# Altium footprint library PEPLLIB.PcbLib: 78 footprints (part 4 of 5)
Each footprint in its own frame and in the unit in brackets; x right, y up, seen from the top. Pads: shape width x height; smd on the part's side, far side on the other; paste and mask are expansions set on the pad; w line width, h text height; cw(c..) or ccw(c..) is an arc to the next point about the centre after c.
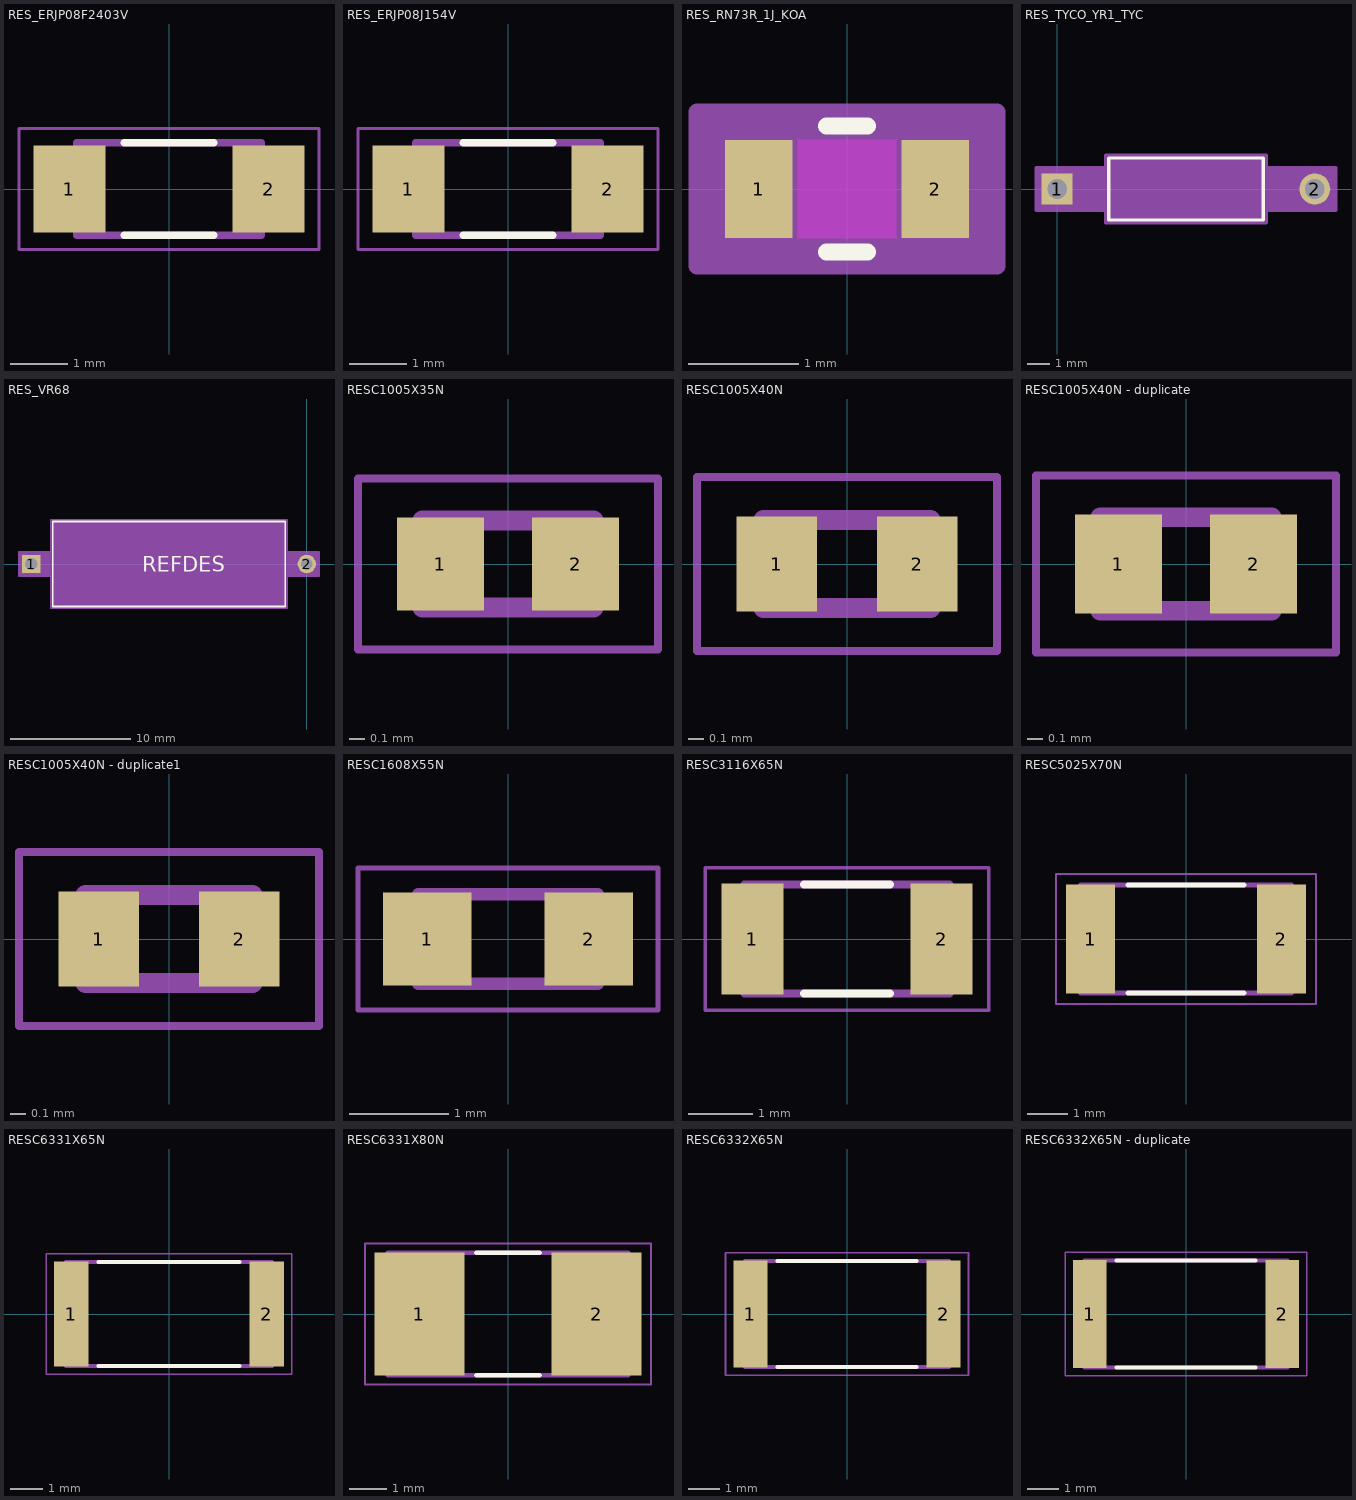
[diagram p3: the footprints below, top view; thin cyan lines are the x and y axes]

## RES_ERJP08F2403V [mm]
pads (2):
  rect 1.25x1.5 smd: 1(-1.725,0) 2(1.725,0)
Top Overlay:
  lines w0.127: -0.78,-0.8 0.78,-0.8 ; -0.78,0.8 0.78,0.8
Mechanical 13:
  lines w0.127: -1.6,-0.8 -1.6,0.8 1.6,0.8 1.6,-0.8 -1.6,-0.8
Mechanical 15:
  lines w0.05: -2.6,-1.05 -2.6,1.05 2.6,1.05 2.6,-1.05 -2.6,-1.05
3D body "ERJ-P08F2403V.step": height 0.6, standoff 0, extent -1.7,-0.8 1.5,0.8

## RES_ERJP08J154V [mm]
pads (2):
  rect 1.25x1.5 smd: 1(-1.725,0) 2(1.725,0)
Top Overlay:
  lines w0.127: -0.78,-0.8 0.78,-0.8 ; -0.78,0.8 0.78,0.8
Mechanical 13:
  lines w0.127: -1.6,-0.8 1.6,-0.8 1.6,0.8 -1.6,0.8 -1.6,-0.8
Mechanical 15:
  lines w0.05: -2.6,-1.05 2.6,-1.05 2.6,1.05 -2.6,1.05 -2.6,-1.05

## RES_RN73R_1J_KOA [mil]
pads (2):
  rect 24x35 smd paste+0 mask+0: 1(-31.5,0) 2(31.5,0)
Top Layer keep-out:
  region: -17.5,-15.5 -17.5,15.5 17.5,15.5 17.5,-15.5
Top Overlay:
  lines w6: -7.39,-22.5 7.39,-22.5 ; -7.39,22.5 7.39,22.5
Keep-Out Layer:
  region: -17.5,-17.5 -17.5,17.5 17.5,17.5 17.5,-17.5
Mechanical 13:
  lines w1: -35.5,-17.5 -35.5,17.5 ; -35.5,-17.5 -19.5,-17.5 -19.5,17.5 -35.5,17.5 ; -35.5,-17.5 35.5,-17.5 ; -35.5,-17.5 -35.5,17.5 ; -35.5,17.5 35.5,17.5 ; 35.5,-17.5 19.5,-17.5 19.5,17.5 35.5,17.5 ; 35.5,-17.5 35.5,17.5 ; 35.5,-17.5 35.5,17.5
Mechanical 15:
  region: 53.5,-27.5 -53.5,-27.5 -53.5,27.5 53.5,27.5
  lines w6: -53.5,-27.5 -53.5,27.5 53.5,27.5 53.5,-27.5 -53.5,-27.5
3D body "RES_RN73R_1J_KOA.step": height 22.01, standoff 0, extent -35.51,-17.48 35.51,17.48

## RES_TYCO_YR1_TYC [mil]
pads (2):
  rect 54x54 / inner round 60 / far side rect 54x54 hole 34 paste-99999 mask+0: 1(0,0)
  round 54 / inner round 60 / far side round 54 hole 34 paste-99999 mask+0: 2(449,0)
Top Overlay:
  lines w6: 89.5,-54 89.5,54 359.5,54 359.5,-54 89.5,-54
Mechanical 13:
  lines w1: 0,0 94.5,0 ; 354.5,0 449,0 ; 94.5,-49 94.5,49 354.5,49 354.5,-49 94.5,-49
Mechanical 15:
  region: 84.5,-37 -37,-37 -37,37 84.5,37 84.5,59 364.5,59 364.5,37 486,37 486,-37 364.5,-37 364.5,-59 84.5,-59
  lines w6: -37,-37 84.5,-37 84.5,-59 364.5,-59 364.5,-37 486,-37 486,37 364.5,37 364.5,59 84.5,59 84.5,37 -37,37 -37,-37
3D body "RES_TYCO_YR1_TYC.step": height 98.02, standoff -100, extent -12.01,-48.64 460.98,48.64

## RES_VR68 [mil]
pads (2):
  rect 60x60 / inner round 60 / far side rect 60x60 hole 40 paste-99999 mask-30: 1(-900,0)
  round 60 hole 38 paste-99999 mask-30: 2(0,0)
Top Overlay:
  lines w6: -830,-139 -70,-139 -70,139 -830,139 -830,-139
  text "REFDES" at -537.5,-25 h50
Mechanical 13:
  lines w1: -900,0 -825,0 ; -75,0 0,0 ; -825,-134 -75,-134 -75,134 -825,134 -825,-134
  text "RefDes2" at -537.5,-25 h50
Mechanical 15:
  region: -835,-40 -940,-40 -940,40 -835,40 -835,144 -65,144 -65,40 40,40 40,-40 -65,-40 -65,-144 -835,-144
  lines w6: -940,-40 -940,40 -835,40 -835,144 -65,144 -65,40 40,40 40,-40 -65,-40 -65,-144 -835,-144 -835,-40 -940,-40
3D body "RES_VR68.step": height 267.53, standoff -100, extent -915,-135 15,132.76

## RESC1005X35N [mm]
pads (2):
  rect 0.56x0.6 smd: 1(-0.435,0) 2(0.435,0)
Mechanical 13:
  lines w0.127: -0.55,-0.28 -0.55,0.28 0.55,0.28 0.55,-0.28 -0.55,-0.28
Mechanical 15:
  lines w0.05: -0.965,-0.55 -0.965,0.55 0.965,0.55 0.965,-0.55 -0.965,-0.55

## RESC1005X40N [mm]
pads (2):
  rect 0.51x0.6 smd: 1(-0.445,0) 2(0.445,0)
Mechanical 13:
  lines w0.127: -0.53,-0.28 0.53,-0.28 0.53,0.28 -0.53,0.28 -0.53,-0.28
Mechanical 15:
  lines w0.05: -0.95,-0.55 0.95,-0.55 0.95,0.55 -0.95,0.55 -0.95,-0.55

## RESC1005X40N - duplicate [mm]
pads (2):
  rect 0.56x0.64 smd: 1(-0.435,0) 2(0.435,0)
Mechanical 13:
  lines w0.127: -0.55,-0.3 -0.55,0.3 0.55,0.3 0.55,-0.3 -0.55,-0.3
Mechanical 15:
  lines w0.05: -0.965,-0.569 -0.965,0.569 0.965,0.569 0.965,-0.569 -0.965,-0.569

## RESC1005X40N - duplicate1 [mm]
pads (2):
  rect 0.51x0.6 smd mask+0.05: 1(-0.445,0) 2(0.445,0)
Mechanical 13:
  lines w0.127: -0.53,-0.28 0.53,-0.28 0.53,0.28 -0.53,0.28 -0.53,-0.28
Mechanical 15:
  lines w0.05: -0.95,-0.55 0.95,-0.55 0.95,0.55 -0.95,0.55 -0.95,-0.55
3D body "step_temp.STEP": height 0.4, standoff 0, extent -0.5,-0.25 0.5,0.25

## RESC1608X55N [mm]
pads (2):
  rect 0.89x0.93 smd: 1(-0.814,0) 2(0.814,0)
Mechanical 13:
  lines w0.127: -0.9,-0.45 0.9,-0.45 0.9,0.45 -0.9,0.45 -0.9,-0.45
Mechanical 15:
  lines w0.05: -1.508,-0.715 1.508,-0.715 1.508,0.715 -1.508,0.715 -1.508,-0.715

## RESC3116X65N [mm]
pads (2):
  rect 0.97x1.73 smd: 1(-1.48,0) 2(1.48,0)
Top Overlay:
  lines w0.127: -0.67,-0.85 0.67,-0.85 ; -0.67,0.85 0.67,0.85
Mechanical 13:
  lines w0.127: -1.6,-0.85 -1.6,0.85 1.6,0.85 1.6,-0.85 -1.6,-0.85
Mechanical 15:
  lines w0.05: -2.215,-1.115 -2.215,1.115 2.215,1.115 2.215,-1.115 -2.215,-1.115
3D body "step_temp.STEP": height 0.65, standoff 0, extent -1.55,-0.8 1.55,0.8

## RESC5025X70N [mm]
pads (2):
  rect 1.2x2.67 smd: 1(-2.335,0) 2(2.335,0)
Top Overlay:
  lines w0.127: -1.42,-1.32 1.42,-1.32 ; -1.42,1.32 1.42,1.32
Mechanical 13:
  lines w0.127: -2.58,-1.32 2.58,-1.32 2.58,1.32 -2.58,1.32 -2.58,-1.32
Mechanical 15:
  lines w0.05: -3.185,-1.585 3.185,-1.585 3.185,1.585 -3.185,1.585 -3.185,-1.585

## RESC6331X65N [mm]
pads (2):
  rect 1.07x3.27 smd: 1(-3.055,0) 2(3.055,0)
Top Overlay:
  lines w0.127: -2.2,-1.63 2.2,-1.63 ; -2.2,1.63 2.2,1.63
Mechanical 13:
  lines w0.127: -3.22,-1.63 -3.22,1.63 3.22,1.63 3.22,-1.63 -3.22,-1.63
Mechanical 15:
  lines w0.05: -3.84,-1.885 -3.84,1.885 3.84,1.885 3.84,-1.885 -3.84,-1.885

## RESC6331X80N [mm]
pads (2):
  rect 2.44x3.32 smd: 1(-2.39,0) 2(2.39,0)
Top Overlay:
  lines w0.127: -0.85,-1.65 0.85,-1.65 ; -0.85,1.65 0.85,1.65
Mechanical 13:
  lines w0.127: -3.25,-1.65 -3.25,1.65 3.25,1.65 3.25,-1.65 -3.25,-1.65
Mechanical 15:
  lines w0.05: -3.858,-1.908 -3.858,1.908 3.858,1.908 3.858,-1.908 -3.858,-1.908

## RESC6332X65N [mm]
pads (2):
  rect 1.07x3.37 smd: 1(-3.055,0) 2(3.055,0)
Top Overlay:
  lines w0.127: -2.2,-1.68 2.2,-1.68 ; -2.2,1.68 2.2,1.68
Mechanical 13:
  lines w0.127: -3.22,-1.68 -3.22,1.68 3.22,1.68 3.22,-1.68 -3.22,-1.68
Mechanical 15:
  lines w0.05: -3.84,-1.935 -3.84,1.935 3.84,1.935 3.84,-1.935 -3.84,-1.935
3D body "step_temp.STEP": height 0.65, standoff 0, extent -3.175,-1.6 3.175,1.6

## RESC6332X65N - duplicate [mm]
pads (2):
  rect 1.07x3.42 smd: 1(-3.055,0) 2(3.055,0)
Top Overlay:
  lines w0.127: -2.2,-1.7 2.2,-1.7 ; -2.2,1.7 2.2,1.7
Mechanical 13:
  lines w0.127: -3.22,-1.7 3.22,-1.7 3.22,1.7 -3.22,1.7 -3.22,-1.7
Mechanical 15:
  lines w0.05: -3.84,-1.958 3.84,-1.958 3.84,1.958 -3.84,1.958 -3.84,-1.958